# Altium footprint library Footprints_Warga.PcbLib: 47 footprints (part 2 of 3)
Each footprint in its own frame and in the unit in brackets; x right, y up, seen from the top. Pads: shape width x height; smd on the part's side, far side on the other; paste and mask are expansions set on the pad; w line width, h text height; cw(c..) or ccw(c..) is an arc to the next point about the centre after c.
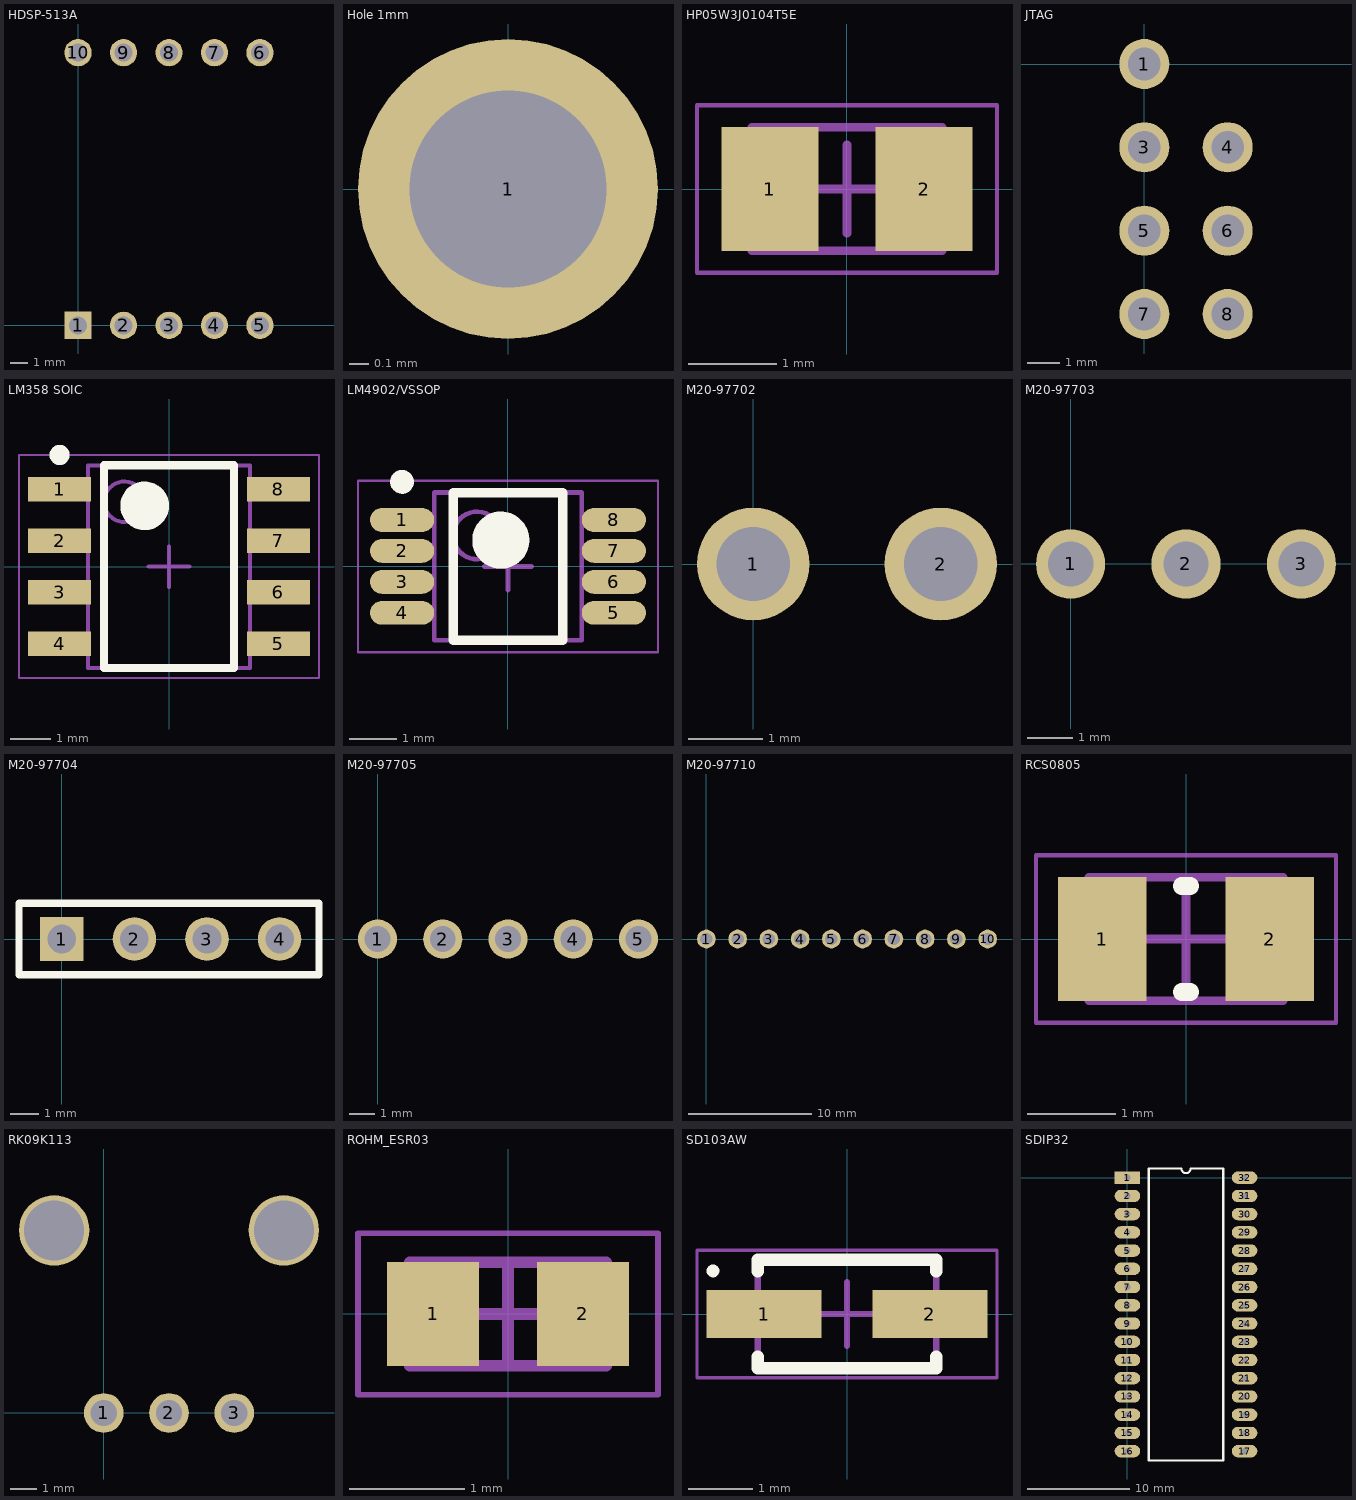
[diagram p1: the footprints below, top view; thin cyan lines are the x and y axes]

## HDSP-513A [mil] "7-segment LED display"
pads (10):
  rect 60x60 hole 39.37: 1(0,0)
  round 60 hole 39.37: 2(100,0) 3(200,0) 4(300,0) 5(400,0) 6(400,600) 7(300,600) 8(200,600) 9(100,600) 10(0,600)

## Hole 1mm [mil]
pads (1):
  round 60 hole 39.37: 1(0,0)

## HP05W3J0104T5E [mm] "Chip Resistor, 2-Leads, Body 2,00x1,27mm, IPC Medium Density"
height 0.65
pads (2):
  rect 1.1x1.4 smd: 1(-0.875,0) 2(0.875,0)
Mechanical 13:
  lines w0.1: -1.075,-0.7 1.075,-0.7 1.075,0.7 -1.075,0.7 -1.075,-0.7
Mechanical 15:
  lines w0.05: -1.7,-0.95 1.7,-0.95 1.7,0.95 -1.7,0.95 -1.7,-0.95
  lines w0.1: -0.5,0 0.5,0 ; 0,-0.5 0,0.5
3D body: height 0.65, standoff 0, extent 0.675,-0.7 1.075,0.7
3D body: height 0.65, standoff 0, extent -1.075,-0.7 -0.675,0.7
3D body: height 0.65, standoff 0, extent -0.675,-0.7 0.675,0.7

## JTAG [mil] "2x4x1mm holes 2.54mm pitch"
pads (7):
  round 60 hole 39.37: 1(0,0) 3(0,-100) 4(100,-100) 5(0,-200) 6(100,-200) 7(0,-300) 8(100,-300)

## LM358 SOIC [mm] "SOIC, 8-Leads, Body 4,90x3,90mm, Pitch 1,27mm, IPC Medium Density"
height 1.75
pads (8):
  rect 1.55x0.6 smd: 1(-2.7,1.905) 2(-2.7,0.635) 3(-2.7,-0.635) 4(-2.7,-1.905) 5(2.7,-1.905) 6(2.7,-0.635) 7(2.7,0.635) 8(2.7,1.905)
Top Overlay:
  circle w0.25: c-2.7,2.755 r0.125
  circle w0.6: c-0.6,1.5 r0.3
  lines w0.2: -1.6,-2.5 -1.6,2.5 1.6,2.5 1.6,-2.5 -1.6,-2.5
Mechanical 13:
  circle w0.1: c-1.1,1.6 r0.5
  lines w0.1: -2,-2.5 -2,2.5 2,2.5 2,-2.5 -2,-2.5
Mechanical 15:
  lines w0.05: -3.7,-2.75 -3.7,2.75 3.7,2.75 3.7,-2.75 -3.7,-2.75
  lines w0.1: -0.5,0 0.5,0 ; 0,-0.5 0,0.5
3D body: height 1.75, standoff 0.1, extent -2,-2.5 2,2.5

## LM4902/VSSOP [mm] "TSOP, 8-Leads, Body 3,00x3,00mm, Pitch 0,65mm, IPC Medium Density"
height 1.1
pads (8):
  oval 1.35x0.5 smd: 1(-2.225,0.975) 2(-2.225,0.325) 3(-2.225,-0.325) 4(-2.225,-0.975) 5(2.225,-0.975) 6(2.225,-0.325) 7(2.225,0.325) 8(2.225,0.975)
Top Overlay:
  circle w0.6: c-0.15,0.55 r0.3
  circle w0.25: c-2.225,1.775 r0.125
  lines w0.2: -1.15,-1.55 1.15,-1.55 1.15,1.55 -1.15,1.55 -1.15,-1.55
Mechanical 13:
  circle w0.1: c-0.65,0.65 r0.5
  lines w0.1: -1.55,-1.55 1.55,-1.55 1.55,1.55 -1.55,1.55 -1.55,-1.55
Mechanical 15:
  lines w0.05: -3.15,-1.8 3.15,-1.8 3.15,1.8 -3.15,1.8 -3.15,-1.8
  lines w0.1: -0.5,0 0.5,0 ; 0,-0.5 0,0.5
3D body: height 1.1, standoff 0.15, extent -1.55,-1.55 1.55,1.55

## M20-97702 [mil] "2x1mm holes 2.54mm pitch"
pads (2):
  round 60 hole 39.37: 1(0,0) 2(100,0)

## M20-97703 [mil] "3x1mm holes 2.54mm pitch"
pads (3):
  round 60 hole 39.37: 1(0,0) 2(100,0) 3(200,0)

## M20-97704 [mil] "4x1mm holes 2.54mm pitch"
pads (4):
  rect 60x60 hole 39.37: 1(0,0)
  round 60 hole 39.37: 2(100,0) 3(200,0) 4(300,0)
Top Overlay:
  lines w10: -59.06,-49.21 354.33,-49.21 354.33,49.21 -59.06,49.21 -59.06,-49.21

## M20-97705 [mil] "5x1mm holes 2.54mm pitch"
pads (5):
  round 60 hole 39.37: 1(0,0) 2(100,0) 3(200,0) 4(300,0) 5(400,0)

## M20-97710 [mil] "10x1mm holes 2.54mm pitch"
pads (10):
  round 60 hole 39.37: 1(0,0) 2(100,0) 3(200,0) 4(300,0) 5(400,0) 6(500,0) 7(600,0) 8(700,0) 9(800,0) 10(900,0)

## RCS0805 [mm] "Chip Resistor, 2-Leads, Body 2,05x1,22mm, IPC Medium Density"
height 0.5
pads (2):
  rect 1x1.4 smd: 1(-0.95,0) 2(0.95,0)
Top Overlay:
  lines w0.2: -0.05,-0.6 0.05,-0.6 ; -0.05,0.6 0.05,0.6
Mechanical 13:
  lines w0.1: -1.1,-0.7 -1.1,0.7 1.1,0.7 1.1,-0.7 -1.1,-0.7
Mechanical 15:
  lines w0.05: -1.7,-0.95 -1.7,0.95 1.7,0.95 1.7,-0.95 -1.7,-0.95
  lines w0.1: -0.5,0 0.5,0 ; 0,-0.5 0,0.5
3D body: height 0.5, standoff 0, extent -0.8,-0.7 0.8,0.7
3D body: height 0.5, standoff 0, extent -1.1,-0.7 -0.8,0.7
3D body: height 0.5, standoff 0, extent 0.8,-0.7 1.1,0.7

## RK09K113 [mm]
pads (5):
  round 1.524 hole 1: 1(0,0) 2(2.5,0) 3(5,0)
  round 2.7 hole 2.3: ""(-1.9,7) ""(6.9,7)

## ROHM_ESR03 [mm] "Chip Resistor, 2-Leads, Body 1,60x0,80mm, IPC Medium Density"
height 0.55
pads (2):
  rect 0.8x0.9 smd: 1(-0.65,0) 2(0.65,0)
Mechanical 13:
  lines w0.1: -0.85,-0.45 -0.85,0.45 0.85,0.45 0.85,-0.45 -0.85,-0.45
Mechanical 15:
  lines w0.05: -1.3,-0.7 -1.3,0.7 1.3,0.7 1.3,-0.7 -1.3,-0.7
  lines w0.1: -0.45,0 0.45,0 ; 0,-0.45 0,0.45
3D body: height 0.55, standoff 0, extent -0.55,-0.45 0.55,0.45
3D body: height 0.55, standoff 0, extent -0.85,-0.45 -0.55,0.45
3D body: height 0.55, standoff 0, extent 0.55,-0.45 0.85,0.45

## SD103AW [mm] "SODFL, 2-Leads, Body 1,60x3,80mm, IPC Medium Density"
height 1.2
pads (2):
  rect 1.8x0.75 smd: 1(-1.3,0) 2(1.3,0)
Top Overlay:
  circle w0.1: c-2.1,0.675 r0.05
  lines w0.2: -1.4,-0.675 -1.4,-0.85 1.4,-0.85 1.4,-0.675 ; -1.4,0.675 -1.4,0.85 1.4,0.85 1.4,0.675
Mechanical 13:
  lines w0.1: -1.4,-0.85 1.4,-0.85 1.4,0.85 -1.4,0.85 -1.4,-0.85
Mechanical 15:
  lines w0.05: -2.35,-1 2.35,-1 2.35,1 -2.35,1 -2.35,-1
  lines w0.1: -0.5,0 0.5,0 ; 0,-0.5 0,0.5
3D body: height 1.2, standoff 0, extent -1.4,-0.85 1.4,0.85

## SDIP32 [mm]
pads (32):
  rect 2.5x1.2 hole 0.6: 1(0,0)
  oval 2.5x1.2 hole 0.6: 2(0,-1.778) 3(0,-3.556) 4(0,-5.334) 5(0,-7.112) 6(0,-8.89) 7(0,-10.668) 8(0,-12.446) 9(0,-14.224) 10(0,-16.002) 11(0,-17.78) 12(0,-19.558) 13(0,-21.336) 14(0,-23.114) 15(0,-24.892) 16(0,-26.67) 17(11.43,-26.67) 18(11.43,-24.892) 19(11.43,-23.114) 20(11.43,-21.336) 21(11.43,-19.558) 22(11.43,-17.78) 23(11.43,-16.002) 24(11.43,-14.224) 25(11.43,-12.446) 26(11.43,-10.668) 27(11.43,-8.89) 28(11.43,-7.112) 29(11.43,-5.334) 30(11.43,-3.556) 31(11.43,-1.778) 32(11.43,0)
Top Overlay:
  lines w0.2: 2.085,-27.559 9.345,-27.559 9.345,0.889 6.159,0.889 cw(c5.715,0.889) 5.271,0.889 2.085,0.889 2.085,-27.559